# Altium schematic symbol library FB_Wurth_Electronics_742792731_100Ohms.SchLib: 1 symbol
Pins are listed as number, name and electrical type; pins without a type are passive.

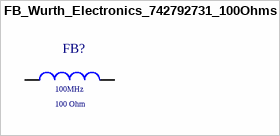
[diagram p0: symbol FB_Wurth_Electronics_742792731_100Ohms]

## FB_Wurth_Electronics_742792731_100Ohms
designator FB?, comment Measuring Frequency: 100MHz  Impedance: 100 Ohm  (hidden comment: 742792731)
FB SMD 100 OHM 25% 1.2A 0402; DC Resistance: 90mOhm; Supplier 1: Mouser; Supplier Part Number 1: 710-742792731
footprint FB_Wurth_Electronics_742792731_100Ohms
pins: 1, 2